# Altium footprint library FMC_SDR_XFE.PcbLib: 41 footprints (part 1 of 3)
Each footprint in its own frame and in the unit in brackets; x right, y up, seen from the top. Pads: shape width x height; smd on the part's side, far side on the other; paste and mask are expansions set on the pad; w line width, h text height; cw(c..) or ccw(c..) is an arc to the next point about the centre after c.
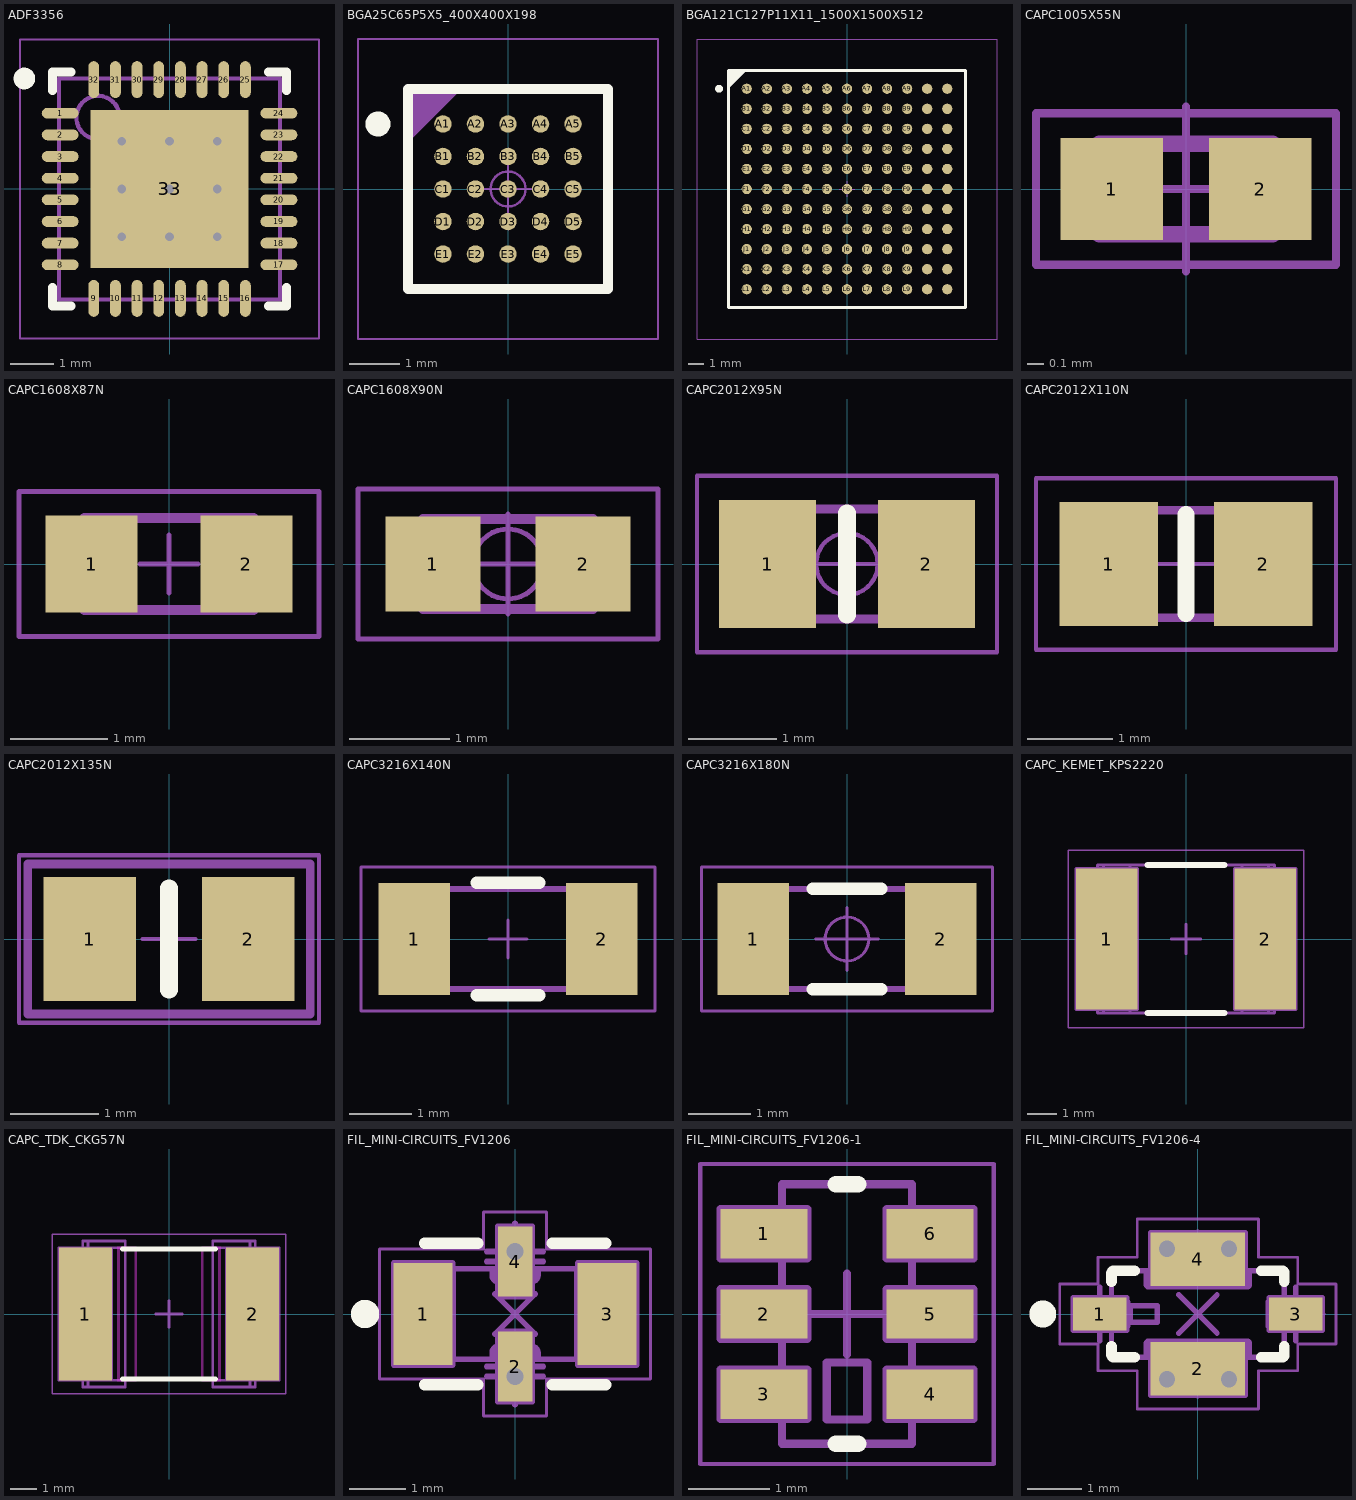
[diagram p0: the footprints below, top view; thin cyan lines are the x and y axes]

## ADF3356 [mm] "QFN, 32-Leads, Body 5,00x5,00mm, Pitch 0,50mm, Thermal Pad 3,65x3,65mm, IPC Low Density"
height 0.8
pads (33):
  oval 0.85x0.25 smd: 1(-2.525,1.75) 2(-2.525,1.25) 3(-2.525,0.75) 4(-2.525,0.25) 5(-2.525,-0.25) 6(-2.525,-0.75) 7(-2.525,-1.25) 8(-2.525,-1.75) 17(2.525,-1.75) 18(2.525,-1.25) 19(2.525,-0.75) 20(2.525,-0.25) 21(2.525,0.25) 22(2.525,0.75) 23(2.525,1.25) 24(2.525,1.75)
  oval 0.25x0.85 smd: 9(-1.75,-2.525) 10(-1.25,-2.525) 11(-0.75,-2.525) 12(-0.25,-2.525) 13(0.25,-2.525) 14(0.75,-2.525) 15(1.25,-2.525) 16(1.75,-2.525) 25(1.75,2.525) 26(1.25,2.525) 27(0.75,2.525) 28(0.25,2.525) 29(-0.25,2.525) 30(-0.75,2.525) 31(-1.25,2.525) 32(-1.75,2.525)
  rect 3.65x3.65 smd: 33(0,0)
via 1.1,-1.1 diameter 0.5 hole 0.2
via 0,-1.1 diameter 0.5 hole 0.2
via -1.1,-1.1 diameter 0.5 hole 0.2
via 1.1,0 diameter 0.5 hole 0.2
via 0,0 diameter 0.5 hole 0.2
via -1.1,0 diameter 0.5 hole 0.2
via 1.1,1.1 diameter 0.5 hole 0.2
via 0,1.1 diameter 0.5 hole 0.2
via -1.1,1.1 diameter 0.5 hole 0.2
Top Overlay:
  circle w0.25: c-3.35,2.55 r0.125
  lines w0.2: -2.7,-2.275 -2.7,-2.7 -2.275,-2.7 ; -2.7,2.275 -2.7,2.7 -2.275,2.7 ; 2.275,-2.7 2.7,-2.7 2.7,-2.275 ; 2.275,2.7 2.7,2.7 2.7,2.275
Mechanical 13:
  circle w0.1: c-1.65,1.65 r0.5
  lines w0.1: -2.55,-2.55 2.55,-2.55 2.55,2.55 -2.55,2.55 -2.55,-2.55
Mechanical 15:
  lines w0.05: -3.45,-3.45 3.45,-3.45 3.45,3.45 -3.45,3.45 -3.45,-3.45
  lines w0.1: -0.5,0 0.5,0 ; 0,-0.5 0,0.5
3D body: height 0.8, standoff 0.01, extent -2.55,-2.55 2.55,2.55

## BGA25C65P5X5_400X400X198 [mm] "BGA, 0.65mm Pitch, Square; 25 Pin, 5 Columns X 5 Rows, 4.00mm X 4.00mm X 1.98mm H"
height 1.98
pads (25):
  round 0.35 smd: A1(-1.3,1.3) A2(-0.65,1.3) A3(0,1.3) A4(0.65,1.3) A5(1.3,1.3) B1(-1.3,0.65) B2(-0.65,0.65) B3(0,0.65) B4(0.65,0.65) B5(1.3,0.65) C1(-1.3,0) C2(-0.65,0) C3(0,0) C4(0.65,0) C5(1.3,0) D1(-1.3,-0.65) D2(-0.65,-0.65) D3(0,-0.65) D4(0.65,-0.65) D5(1.3,-0.65) E1(-1.3,-1.3) E2(-0.65,-1.3) E3(0,-1.3) E4(0.65,-1.3) E5(1.3,-1.3)
Top Overlay:
  circle w0.25: c-2.6,1.3 r0.125
  lines w0.2: -2,-2 -2,2 2,2 2,-2 -2,-2
Mechanical 14:
  lines w0.1: -2,1 -1,2 ; -2,1.1 -1.1,2 ; -2,1.2 -1.2,2 ; -2,1.3 -1.3,2 ; -2,1.4 -1.4,2 ; -2,1.5 -1.5,2 ; -2,1.6 -1.6,2 ; -2,1.7 -1.7,2 ; -2,1.8 -1.8,2 ; -2,1.9 -1.9,2 ; -2,-2 -2,2 2,2 2,-2 -2,-2
  text "1" at -1.15,2.3 h0.5
  text "2" at -0.5,2.3 h0.5
  text "3" at 0.15,2.3 h0.5
  text "4" at 0.8,2.3 h0.5
  text "5" at 1.45,2.3 h0.5
  text "A" at -2.6,1.1 h0.5
  text "B" at -2.6,0.45 h0.5
  text "C" at -2.6,-0.2 h0.5
  text "D" at -2.6,-0.85 h0.5
  text "E" at -2.6,-1.5 h0.5
Mechanical 15:
  circle w0.05: c0,0 r0.35
  lines w0.05: -0.5,0 0.5,0 ; 0,-0.5 0,0.5 ; -3,-3 -3,3 3,3 3,-3 -3,-3
3D body "BGA25C65P5X5_400X400X198.stp": height 1.98, standoff 0, extent -2,-2 2,2

## BGA121C127P11X11_1500X1500X512 [mm] "BGA,1.27mm Pitch, Square;121 Pin, 11 Columns X 11 Rows, 15.00mm X 15.00mm X 5.12mm H"
height 5.12
pads (121):
  round 0.65 smd: A1(-6.35,6.35) A2(-5.08,6.35) A3(-3.81,6.35) A4(-2.54,6.35) A5(-1.27,6.35) A6(0,6.35) A7(1.27,6.35) A8(2.54,6.35) A9(3.81,6.35) A10(5.08,6.35) A11(6.35,6.35) B1(-6.35,5.08) B2(-5.08,5.08) B3(-3.81,5.08) B4(-2.54,5.08) B5(-1.27,5.08) B6(0,5.08) B7(1.27,5.08) B8(2.54,5.08) B9(3.81,5.08) B10(5.08,5.08) B11(6.35,5.08) C1(-6.35,3.81) C2(-5.08,3.81) C3(-3.81,3.81) C4(-2.54,3.81) C5(-1.27,3.81) C6(0,3.81) C7(1.27,3.81) C8(2.54,3.81) C9(3.81,3.81) C10(5.08,3.81) C11(6.35,3.81) D1(-6.35,2.54) D2(-5.08,2.54) D3(-3.81,2.54) D4(-2.54,2.54) D5(-1.27,2.54) D6(0,2.54) D7(1.27,2.54) D8(2.54,2.54) D9(3.81,2.54) D10(5.08,2.54) D11(6.35,2.54) E1(-6.35,1.27) E2(-5.08,1.27) E3(-3.81,1.27) E4(-2.54,1.27) E5(-1.27,1.27) E6(0,1.27) E7(1.27,1.27) E8(2.54,1.27) E9(3.81,1.27) E10(5.08,1.27) E11(6.35,1.27) F1(-6.35,0) F2(-5.08,0) F3(-3.81,0) F4(-2.54,0) F5(-1.27,0) F6(0,0) F7(1.27,0) F8(2.54,0) F9(3.81,0) F10(5.08,0) F11(6.35,0) G1(-6.35,-1.27) G2(-5.08,-1.27) G3(-3.81,-1.27) G4(-2.54,-1.27) G5(-1.27,-1.27) G6(0,-1.27) G7(1.27,-1.27) G8(2.54,-1.27) G9(3.81,-1.27) G10(5.08,-1.27) G11(6.35,-1.27) H1(-6.35,-2.54) H2(-5.08,-2.54) H3(-3.81,-2.54) H4(-2.54,-2.54) H5(-1.27,-2.54) H6(0,-2.54) H7(1.27,-2.54) H8(2.54,-2.54) H9(3.81,-2.54) H10(5.08,-2.54) H11(6.35,-2.54) J1(-6.35,-3.81) J2(-5.08,-3.81) J3(-3.81,-3.81) J4(-2.54,-3.81) J5(-1.27,-3.81) J6(0,-3.81) J7(1.27,-3.81) J8(2.54,-3.81) J9(3.81,-3.81) J10(5.08,-3.81) J11(6.35,-3.81) K1(-6.35,-5.08) K2(-5.08,-5.08) K3(-3.81,-5.08) K4(-2.54,-5.08) K5(-1.27,-5.08) K6(0,-5.08) K7(1.27,-5.08) K8(2.54,-5.08) K9(3.81,-5.08) K10(5.08,-5.08) K11(6.35,-5.08) L1(-6.35,-6.35) L2(-5.08,-6.35) L3(-3.81,-6.35) L4(-2.54,-6.35) L5(-1.27,-6.35) L6(0,-6.35) L7(1.27,-6.35) L8(2.54,-6.35) L9(3.81,-6.35) L10(5.08,-6.35) L11(6.35,-6.35)
Top Overlay:
  circle w0.25: c-8.1,6.35 r0.125
  lines w0.2: -7.5,6.5 -6.5,7.5 ; -7.5,6.7 -6.7,7.5 ; -7.5,6.9 -6.9,7.5 ; -7.5,7.1 -7.1,7.5 ; -7.5,7.3 -7.3,7.5 ; -7.5,-7.5 7.5,-7.5 7.5,7.5 -7.5,7.5 -7.5,-7.5
Mechanical 14:
  lines w0.1: -7.5,6.5 -6.5,7.5 ; -7.5,6.6 -6.6,7.5 ; -7.5,6.7 -6.7,7.5 ; -7.5,6.8 -6.8,7.5 ; -7.5,6.9 -6.9,7.5 ; -7.5,7 -7,7.5 ; -7.5,7.1 -7.1,7.5 ; -7.5,7.2 -7.2,7.5 ; -7.5,7.3 -7.3,7.5 ; -7.5,7.4 -7.4,7.5 ; -7.5,-7.5 7.5,-7.5 7.5,7.5 -7.5,7.5 -7.5,-7.5
  text "K" at -8.155,-6.567 h0.4
  text "J" at -8.155,-5.297 h0.4
  text "I" at -8.026,-4.002 h0.4
  text "H" at -8.101,-2.732 h0.4
  text "A" at -8.101,6.158 h0.4
  text "B" at -8.101,4.888 h0.4
  text "C" at -8.101,3.618 h0.4
  text "G" at -8.101,-1.462 h0.4
  text "D" at -8.101,2.348 h0.4
  text "E" at -8.101,1.078 h0.4
  text "F" at -8.101,-0.192 h0.4
  text "11" at 6.288,7.847 h0.4
  text "10" at 5.018,7.847 h0.4
  text "8" at 2.478,7.847 h0.4
  text "7" at 1.208,7.847 h0.4
  text "6" at -0.062,7.847 h0.4
  text "5" at -1.332,7.847 h0.4
  text "4" at -2.602,7.847 h0.4
  text "3" at -3.872,7.847 h0.4
  text "2" at -5.142,7.847 h0.4
  text "1" at -6.412,7.847 h0.4
  text "9" at 3.748,7.847 h0.4
Mechanical 15:
  lines w0.05: -0.5,0 0.5,0 ; 0,-0.5 0,0.5 ; -9.5,-9.5 9.5,-9.5 9.5,9.5 -9.5,9.5 -9.5,-9.5
3D body "BGA121C127P11X11_1500X1500X512.stp": height 5.21, standoff 0, extent -7.5,-7.5 7.5,7.5

## CAPC1005X55N [mm] "Capacitor, Non-Polarized, Chip; 1.00mm L X 0.50mm W X 0.70mm H, IPC Medium Density"
height 0.55
pads (2):
  rect 0.62x0.62 smd: 1(-0.45,0) 2(0.45,0)
Mechanical 14:
  lines w0.1: -0.525,-0.275 -0.525,0.275 0.525,0.275 0.525,-0.275 -0.525,-0.275
Mechanical 15:
  lines w0.05: -0.5,0 0.5,0 ; 0,-0.5 0,0.5 ; -0.91,-0.46 -0.91,0.46 0.91,0.46 0.91,-0.46 -0.91,-0.46
3D body "CAPC1005X55N.stp": height 0.55, standoff 0, extent -0.525,-0.275 0.525,0.275

## CAPC1608X87N [mm] "Chip Capacitor, Body 1.6x0.8mm IPC Medium Density"
height 0.87
pads (2):
  rect 0.95x1 smd: 1(-0.8,0) 2(0.8,0)
Mechanical 14:
  lines w0.1: -0.875,-0.475 -0.875,0.475 0.875,0.475 0.875,-0.475 -0.875,-0.475
Mechanical 15:
  lines w0.05: -0.3,0 0.3,0 ; 0,-0.3 0,0.3 ; -1.55,-0.75 1.55,-0.75 1.55,0.75 -1.55,0.75 -1.55,-0.75
3D body "CAPC1608X87N.stp": height 0.87, standoff 0, extent -0.875,-0.475 0.875,0.475

## CAPC1608X90N [mm] "Chip Capacitor, Body 1.6x0.8mm IPC Medium Density"
height 0.9
pads (2):
  rect 0.95x0.95 smd: 1(-0.75,0) 2(0.75,0)
Mechanical 14:
  lines w0.1: -0.85,-0.45 0.85,-0.45 0.85,0.45 -0.85,0.45 -0.85,-0.45
Mechanical 15:
  circle w0.05: c0,0 r0.35
  lines w0.05: -0.5,0 0.5,0 ; 0,-0.5 0,0.5 ; -1.5,-0.75 1.5,-0.75 1.5,0.75 -1.5,0.75 -1.5,-0.75
3D body "CAPC1608X90N.stp": height 0.9, standoff 0, extent -0.85,-0.45 0.85,0.45

## CAPC2012X95N [mm] "Chip Capacitor, Body 2.0x1.25mm, IPC Medium Density"
height 0.95
pads (2):
  rect 1.1x1.45 smd: 1(-0.9,0) 2(0.9,0)
Top Overlay:
  lines w0.2: 0,-0.575 0,0.575
Mechanical 14:
  lines w0.1: -1,-0.625 1,-0.625 1,0.625 -1,0.625 -1,-0.625
Mechanical 15:
  circle w0.05: c0,0 r0.35
  lines w0.05: -0.5,0 0.5,0 ; 0,-0.5 0,0.5 ; -1.7,-1 1.7,-1 1.7,1 -1.7,1 -1.7,-1
3D body "CAPC2012X95N.stp": height 0.95, standoff 0, extent -1.05,-0.675 1.05,0.675

## CAPC2012X110N [mm] "Chip Capacitor, Body 2.0x1.25mm, IPC Medium Density"
height 1.1
pads (2):
  rect 1.15x1.45 smd: 1(-0.9,0) 2(0.9,0)
Top Overlay:
  lines w0.2: 0,-0.575 0,0.575
Mechanical 14:
  lines w0.1: -1,-0.625 -1,0.625 1,0.625 1,-0.625 -1,-0.625
Mechanical 15:
  lines w0.05: -0.5,0 0.5,0 ; 0,-0.5 0,0.5 ; -1.75,-1 -1.75,1 1.75,1 1.75,-1 -1.75,-1
3D body "CAPC2012X110N.stp": height 1.1, standoff 0, extent -1.05,-0.675 1.05,0.675

## CAPC2012X135N [mm] "Chip Capacitor, Body 2.0x1.25mm, IPC Medium Density"
height 1.35
pads (2):
  rect 1.05x1.4 smd: 1(-0.9,0) 2(0.9,0)
Top Overlay:
  lines w0.2: 0,-0.575 0,0.575
Mechanical 14:
  lines w0.1: -1.6,-0.85 -1.6,0.85 1.6,0.85 1.6,-0.85 -1.6,-0.85
Mechanical 15:
  lines w0.05: -0.3,0 0.3,0 ; 0,-0.3 0,0.3 ; -1.7,-0.95 -1.7,0.95 1.7,0.95 1.7,-0.95 -1.7,-0.95
3D body "CAPC2012X135N.stp": height 1.25, standoff 0, extent -1.05,-0.675 1.05,0.675

## CAPC3216X140N [mm] "Chip Capacitor, Body 3.2x1.6mm, IPC Medium Density"
height 1.4
pads (2):
  rect 1.15x1.8 smd: 1(-1.5,0) 2(1.5,0)
Top Overlay:
  lines w0.2: -0.5,-0.9 0.5,-0.9 ; -0.5,0.9 0.5,0.9
Mechanical 14:
  lines w0.1: -1.6,-0.8 1.6,-0.8 1.6,0.8 -1.6,0.8 -1.6,-0.8
Mechanical 15:
  lines w0.05: -0.3,0 0.3,0 ; 0,-0.3 0,0.3 ; -2.35,-1.15 -2.35,1.15 2.35,1.15 2.35,-1.15 -2.35,-1.15
3D body "CAPC3216X140N.stp": height 1.4, standoff 0, extent -1.7,-0.9 1.7,0.9

## CAPC3216X180N [mm] "Chip Capacitor, Body 3.2x1.6mm, IPC Medium Density"
height 1.8
pads (2):
  rect 1.15x1.8 smd: 1(-1.5,0) 2(1.5,0)
Top Overlay:
  lines w0.2: -0.55,-0.8 0.55,-0.8 ; -0.55,0.8 0.55,0.8
Mechanical 14:
  lines w0.1: -1.6,-0.8 1.6,-0.8 1.6,0.8 -1.6,0.8 -1.6,-0.8
Mechanical 15:
  circle w0.05: c0,0 r0.35
  lines w0.05: -0.5,0 0.5,0 ; 0,-0.5 0,0.5 ; -2.325,-1.15 2.325,-1.15 2.325,1.15 -2.325,1.15 -2.325,-1.15
3D body "CAPC3216X180N.stp": height 1.8, standoff 0, extent -1.7,-0.9 1.7,0.9

## CAPC_KEMET_KPS2220 [mm] "Multilayer Ceramic Chip Capacitors - Stacked Cap - KEMET KPS Series"
height 5.5
pads (2):
  rect 2.08x4.78 smd: 1(-2.69,0) 2(2.69,0)
Top Overlay:
  lines w0.2: -1.3,-2.5 1.3,-2.5 ; -1.3,2.5 1.3,2.5
Mechanical 8:
  lines w0.1: -3.19,0 -2.69,0 ; -2.69,-0.5 -2.69,0 ; -2.69,0.5 -2.69,0 ; -2.19,0 -2.69,0 ; -0.5,0 0,0 ; 0,-0.5 0,0 ; 0,0.5 0,0 ; 0.5,0 0,0 ; 2.19,0 2.69,0 ; 2.69,-0.5 2.69,0 ; 2.69,0.5 2.69,0 ; 3.19,0 2.69,0 ; -3.73,-2.39 -1.65,-2.39 -1.65,2.39 -3.73,2.39 -3.73,-2.39 ; 1.65,-2.39 3.73,-2.39 3.73,2.39 1.65,2.39 1.65,-2.39
Mechanical 14:
  lines w0.1: -2.8,-2.5 -2.8,2.5 ; -1.9,-2.5 -1.9,2.5 ; 1.9,-2.5 1.9,2.5 ; 2.8,-2.5 2.8,2.5 ; -3,-2.5 -3,2.5 3,2.5 3,-2.5 -3,-2.5
Mechanical 15:
  lines w0.05: -3.98,-3 -3.98,3 3.98,3 3.98,-3 -3.98,-3
3D body "CAPC_KEMET_KPS2220.stp": height 5.5, standoff 0, extent -3,-2.5 3,2.5

## CAPC_TDK_CKG57N [mm] "Multilayer Ceramic Chip Capacitors - Stacked Cap - TDK CKG57N Serie"
height 5.5
pads (2):
  rect 2x5 smd: 1(-3.15,0) 2(3.15,0)
Top Layer keep-out:
  lines w0.1: -1.9,-2.5 -1.25,-2.5 -1.25,2.5 -1.9,2.5 -1.9,-2.5 ; 1.25,-2.5 1.25,2.5 1.9,2.5 1.9,-2.5 1.25,-2.5
Top Overlay:
  lines w0.2: -1.75,-2.45 1.75,-2.45 ; -1.75,2.45 1.75,2.45
Mechanical 8:
  lines w0.1: -3.65,0 -3.15,0 ; -3.15,-0.5 -3.15,0 ; -3.15,0.5 -3.15,0 ; -2.65,0 -3.15,0 ; -0.5,0 0,0 ; 0,-0.5 0,0 ; 0,0.5 0,0 ; 0.5,0 0,0 ; 2.65,0 3.15,0 ; 3.15,-0.5 3.15,0 ; 3.15,0.5 3.15,0 ; 3.65,0 3.15,0 ; -4.15,-2.5 -4.15,2.5 -2.15,2.5 -2.15,-2.5 -4.15,-2.5 ; 2.15,-2.5 2.15,2.5 4.15,2.5 4.15,-2.5 2.15,-2.5
Mechanical 14:
  lines w0.1: -3.05,-2.75 -3.05,2.75 ; -3.05,-2.4 ccw(c-2.95,-2.4) -2.95,-2.5 -1.65,-2.5 ; -3.05,2.4 cw(c-2.95,2.4) -2.95,2.5 -1.65,2.5 ; -1.65,-2.45 1.65,-2.45 ; -1.65,2.45 1.65,2.45 ; 1.65,-2.5 2.95,-2.5 ccw(c2.95,-2.4) 3.05,-2.4 ; 1.65,2.5 2.95,2.5 cw(c2.95,2.4) 3.05,2.4 ; 3.05,-2.75 3.05,2.75 ; -3.25,-2.75 -3.25,2.75 -1.65,2.75 -1.65,-2.75 -3.25,-2.75 ; 1.65,-2.75 3.25,-2.75 3.25,2.75 1.65,2.75 1.65,-2.75
Mechanical 15:
  lines w0.05: -4.4,-3 4.4,-3 4.4,3 -4.4,3 -4.4,-3
3D body "CAPC_TDK_CKG57N.stp": height 5.5, standoff 0, extent -3.25,-2.5 3.25,2.5

## FIL_MINI-CIRCUITS_FV1206 [mm] "MINI-CIRCUITS Case FV1206 - Body 3.2x1.6mm"
height 0.94
pads (4):
  rect 1.04x1.8 smd: 1(-1.625,0) 3(1.625,0)
  rect 0.61x1.245 smd: 2(0,-0.928) 4(0,0.927)
via 0,-1.105 diameter 0.6 hole 0.3
via 0,1.105 diameter 0.6 hole 0.3
Top Overlay:
  circle w0.25: c-2.65,0 r0.125
  lines w0.2: -1.6,-1.25 -0.655,-1.25 ; -1.6,1.25 -0.655,1.25 ; 0.655,-1.25 1.6,-1.25 ; 0.655,1.25 1.6,1.25
Mechanical 8:
  lines w0.1: -2.125,0 -1.625,0 ; -1.625,-0.5 -1.625,0 ; -1.625,0.5 -1.625,0 ; -1.125,0 -1.625,0 ; -0.5,-1.105 0,-1.105 ; -0.5,-0.928 0,-0.928 ; -0.5,0.927 0,0.927 ; -0.5,1.105 0,1.105 ; -0.354,-0.354 0,0 ; -0.354,0.353 0,0 ; 0,-1.605 0,-1.105 ; 0,-0.428 0,-0.928 ; 0,0.427 0,0.927 ; 0,1.605 0,1.105 ; 0.354,-0.354 0,0 ; 0.354,0.353 0,0 ; 0.5,-1.105 0,-1.105 ; 0.5,-0.928 0,-0.928 ; 0.5,0.927 0,0.927 ; 0.5,1.105 0,1.105 ; 1.125,0 1.625,0 ; 1.625,-0.5 1.625,0 ; 1.625,0.5 1.625,0 ; 2.125,0 1.625,0 ; -2.145,-0.9 -1.105,-0.9 -1.105,0.9 -2.145,0.9 -2.145,-0.9 ; -0.305,-1.55 -0.305,-0.305 0.305,-0.305 0.305,-1.55 -0.305,-1.55 ; -0.305,0.305 -0.305,1.55 0.305,1.55 0.305,0.305 -0.305,0.305 ; 1.105,-0.9 2.145,-0.9 2.145,0.9 1.105,0.9 1.105,-0.9
Mechanical 14:
  lines w0.1: -1.5,-0.8 -1.5,0.8 ; -1.4,-0.8 -1.4,0.8 ; -1.3,-0.8 -1.3,0.8 ; -1.2,-0.8 -1.2,0.8 ; -1.1,-0.8 -1.1,0.8 ; -1.09,-0.8 -1.09,0.8 ; -1.09,-0.8 1.09,-0.8 ; -1.09,-0.8 -1.6,-0.8 -1.6,0.8 -1.09,0.8 ; -1.09,-0.8 -1.09,0.8 ; -1.09,0.8 1.09,0.8 ; 1.09,-0.8 1.09,0.8 ; 1.09,-0.8 1.6,-0.8 1.6,0.8 1.09,0.8 ; 1.09,-0.8 1.09,0.8 ; -0.405,-0.8 -0.405,-0.685 cw(c-0.29,-0.685) -0.29,-0.57 0.29,-0.57 cw(c0.29,-0.685) 0.405,-0.685 0.405,-0.8 -0.405,-0.8 ; -0.405,0.685 ccw(c-0.29,0.685) -0.29,0.57 0.29,0.57 ccw(c0.29,0.685) 0.405,0.685 0.405,0.8 -0.405,0.8 -0.405,0.685
Mechanical 15:
  lines w0.05: -2.395,-1.15 -0.555,-1.15 -0.555,-1.8 0.555,-1.8 0.555,-1.15 2.395,-1.15 2.395,1.15 0.555,1.15 0.555,1.8 -0.555,1.8 -0.555,1.15 -2.395,1.15 -2.395,-1.15
Drill Drawing:
  lines w0.1: -0.555,-1.05 -0.555,-1.8 0.555,-1.8 0.555,-1.05 ; -0.555,1.05 -0.555,1.8 0.555,1.8 0.555,1.05
  text "Filled and" at -2.4,0.2 h0.5
  text "capped via" at -2.45,-0.55 h0.5
3D body "FIL_MINI-CIRCUITS_FV1206.stp": height 0.94, standoff 0, extent -1.6,-0.8 1.6,0.8

## FIL_MINI-CIRCUITS_FV1206-1 [mm] "MINI-CIRCUITS Case FV1206-1 Body 3.2x1.6mm"
height 0.89
pads (6):
  rect 1.07x0.61 smd: 1(-1.025,0.99) 2(-1.025,0) 3(-1.025,-0.99) 4(1.025,-0.99) 5(1.025,0) 6(1.025,0.99)
Top Overlay:
  lines w0.2: -0.14,-1.6 0.14,-1.6 ; -0.14,1.6 0.14,1.6
Mechanical 8:
  lines w0.1: -0.5,0 0,0 ; 0,-0.5 0,0 ; 0,0.5 0,0 ; 0.5,0 0,0 ; -1.56,-1.295 -0.49,-1.295 -0.49,-0.685 -1.56,-0.685 ; -1.56,-1.295 -1.56,-0.685 ; -1.56,-1.295 -1.025,-0.99 -1.56,-0.685 ; -1.56,-0.305 -0.49,-0.305 -0.49,0.305 -1.56,0.305 ; -1.56,-0.305 -1.56,0.305 ; -1.56,-0.305 -1.025,0 -1.56,0.305 ; -1.56,0.685 -0.49,0.685 -0.49,1.295 -1.56,1.295 ; -1.56,0.685 -1.56,1.295 ; -1.56,0.685 -1.025,0.99 -1.56,1.295 ; 1.56,-1.295 1.56,-0.685 ; 1.56,-1.295 0.49,-1.295 0.49,-0.685 1.56,-0.685 ; 1.56,-1.295 1.025,-0.99 1.56,-0.685 ; 1.56,-0.305 1.56,0.305 ; 1.56,-0.305 0.49,-0.305 0.49,0.305 1.56,0.305 ; 1.56,-0.305 1.025,0 1.56,0.305 ; 1.56,0.685 1.56,1.295 ; 1.56,0.685 0.49,0.685 0.49,1.295 1.56,1.295 ; 1.56,0.685 1.025,0.99 1.56,1.295
Mechanical 14:
  lines w0.1: -0.8,-1.27 -0.62,-1.27 ccw(c-0.62,-1.17) -0.52,-1.17 -0.52,-0.81 ccw(c-0.62,-0.81) -0.62,-0.71 -0.8,-0.71 ; -0.8,-0.28 -0.62,-0.28 ccw(c-0.62,-0.18) -0.52,-0.18 -0.52,0.18 ccw(c-0.62,0.18) -0.62,0.28 -0.8,0.28 ; -0.8,0.71 -0.62,0.71 ccw(c-0.62,0.81) -0.52,0.81 -0.52,1.17 ccw(c-0.62,1.17) -0.62,1.27 -0.8,1.27 ; 0.8,-1.27 0.62,-1.27 cw(c0.62,-1.17) 0.52,-1.17 0.52,-0.81 cw(c0.62,-0.81) 0.62,-0.71 0.8,-0.71 ; 0.8,-0.28 0.62,-0.28 cw(c0.62,-0.18) 0.52,-0.18 0.52,0.18 cw(c0.62,0.18) 0.62,0.28 0.8,0.28 ; 0.8,0.71 0.62,0.71 cw(c0.62,0.81) 0.52,0.81 0.52,1.17 cw(c0.62,1.17) 0.62,1.27 0.8,1.27 ; -0.8,-1.6 -0.8,1.6 0.8,1.6 0.8,-1.6 -0.8,-1.6 ; -0.25,-1.3 0.25,-1.3 0.25,-0.6 -0.25,-0.6 -0.25,-1.3
Mechanical 15:
  lines w0.05: -1.81,-1.85 -1.81,1.85 1.81,1.85 1.81,-1.85 -1.81,-1.85
3D body "FIL_MINI-CIRCUITS_FV1206-1.stp": height 0.89, standoff 0, extent -0.8,-1.6 0.8,1.6

## FIL_MINI-CIRCUITS_FV1206-4 [mm] "MINI-CIRCUITS Case FV1206-4 - Body 3.2x1.6mm"
height 1.04
pads (4):
  rect 0.99x0.61 smd: 1(-1.815,0) 3(1.815,0)
  rect 1.75x0.99 smd: 2(0,-1.015) 4(0,1.015)
via -0.575,1.21 diameter 0.6 hole 0.3
via 0.575,1.21 diameter 0.6 hole 0.3
via -0.575,-1.21 diameter 0.6 hole 0.3
via 0.575,-1.21 diameter 0.6 hole 0.3
Top Overlay:
  circle w0.25: c-2.875,0 r0.125
  lines w0.2: -1.6,-0.605 -1.6,-0.75 ccw(c-1.55,-0.75) -1.55,-0.8 -1.175,-0.8 ; -1.6,0.605 -1.6,0.75 cw(c-1.55,0.75) -1.55,0.8 -1.175,0.8 ; 1.175,-0.8 1.55,-0.8 ccw(c1.55,-0.75) 1.6,-0.75 1.6,-0.605 ; 1.175,0.8 1.55,0.8 cw(c1.55,0.75) 1.6,0.75 1.6,0.605
Mechanical 8:
  circle w0.1: c-0.575,-1.21 r0.3
  circle w0.1: c0.575,-1.21 r0.3
  circle w0.1: c0.575,1.21 r0.3
  circle w0.1: c-0.575,1.21 r0.3
  lines w0.1: -2.315,0 -1.815,0 ; -1.815,-0.5 -1.815,0 ; -1.815,0.5 -1.815,0 ; -1.315,0 -1.815,0 ; -0.875,-1.21 -0.575,-1.21 -0.575,-1.51 ; -0.875,1.21 -0.575,1.21 -0.575,1.51 ; -0.5,-1.015 0,-1.015 ; -0.5,1.015 0,1.015 ; -0.354,-0.354 0,0 ; -0.354,0.354 0,0 ; 0,-1.515 0,-1.015 ; 0,-0.515 0,-1.015 ; 0,0.515 0,1.015 ; 0,1.515 0,1.015 ; 0.354,-0.354 0,0 ; 0.354,0.354 0,0 ; 0.5,-1.015 0,-1.015 ; 0.5,1.015 0,1.015 ; 0.575,-1.51 0.575,-1.21 0.875,-1.21 ; 0.575,1.51 0.575,1.21 0.875,1.21 ; 1.315,0 1.815,0 ; 1.815,-0.5 1.815,0 ; 1.815,0.5 1.815,0 ; 2.315,0 1.815,0 ; -2.31,-0.305 -2.31,0.305 -1.32,0.305 -1.32,-0.305 -2.31,-0.305 ; -0.875,-1.51 -0.875,-0.52 0.875,-0.52 0.875,-1.51 -0.875,-1.51 ; -0.875,0.52 -0.875,1.51 0.875,1.51 0.875,0.52 -0.875,0.52 ; 1.32,-0.305 1.32,0.305 2.31,0.305 2.31,-0.305 1.32,-0.305
Mechanical 14:
  lines w0.1: -1.6,-0.255 -1.35,-0.255 ccw(c-1.35,-0.205) -1.3,-0.205 -1.3,0.205 ccw(c-1.35,0.205) -1.35,0.255 -1.6,0.255 ; -0.955,-0.8 -0.955,-0.55 cw(c-0.905,-0.55) -0.905,-0.5 0.905,-0.5 cw(c0.905,-0.55) 0.955,-0.55 0.955,-0.8 ; -0.955,0.8 -0.955,0.55 ccw(c-0.905,0.55) -0.905,0.5 0.905,0.5 ccw(c0.905,0.55) 0.955,0.55 0.955,0.8 ; 1.6,-0.255 1.35,-0.255 cw(c1.35,-0.205) 1.3,-0.205 1.3,0.205 cw(c1.35,0.205) 1.35,0.255 1.6,0.255 ; -1.6,-0.75 ccw(c-1.55,-0.75) -1.55,-0.8 1.55,-0.8 ccw(c1.55,-0.75) 1.6,-0.75 1.6,0.75 ccw(c1.55,0.75) 1.55,0.8 -1.55,0.8 ccw(c-1.55,0.75) -1.6,0.75 -1.6,-0.75 ; -1.25,-0.15 -0.75,-0.15 -0.75,0.15 -1.25,0.15 -1.25,-0.15
Mechanical 15:
  lines w0.05: -2.56,-0.555 -1.85,-0.555 -1.85,-1.05 -1.125,-1.05 -1.125,-1.76 1.125,-1.76 1.125,-1.05 1.85,-1.05 1.85,-0.555 2.56,-0.555 2.56,0.555 1.85,0.555 1.85,1.05 1.125,1.05 1.125,1.76 -1.125,1.76 -1.125,1.05 -1.85,1.05 -1.85,0.555 -2.56,0.555 -2.56,-0.555
Drill Drawing:
  lines w0.1: -0.875,1.08 -0.875,1.51 0.875,1.51 0.875,1.08 ; -0.875,-1.51 0.875,-1.51 ; -0.875,-1.51 -0.875,-1.08 -0.875,-1.51 ; -0.875,-1.51 0.875,-1.51 ; 0.875,-1.51 0.875,-1.08 0.875,-1.51
  text "Filled and" at -2.4,0.2 h0.5
  text "capped via" at -2.45,-0.55 h0.5
3D body "FIL_MINI-CIRCUITS_FV1206-4.stp": height 1.04, standoff 0, extent -1.6,-0.8 1.6,0.8